# EAGLE library part ELCO-6222-8 (library kyocera-elco)
Kyocera Elco 6222 8-pos
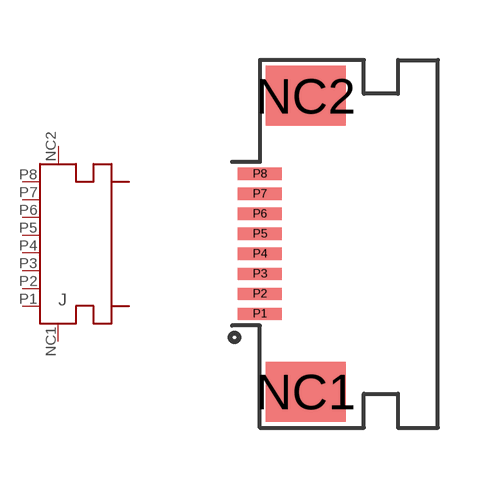
[diagram p0: symbol with the pads of ELCO-6222-8; footprint ELCO-6222-8]

Designator prefix J

## ELCO-6222-8  [ELCO-6222-8]
NC1  NC1  nc
NC2  NC2  nc
P1  P1  pas
P2  P2  pas
P3  P3  pas
P4  P4  pas
P5  P5  pas
P6  P6  pas
P7  P7  pas
P8  P8  pas

## Footprint ELCO-6222-8 (pad centres in mm)
smd 2 x 1.5: NC1 0.85,-3.7; NC2 0.85,3.7
smd 1.1 x 0.3: P1 -0.3,-1.75; P2 -0.3,-1.25; P3 -0.3,-0.75; P4 -0.3,-0.25; P5 -0.3,0.25; P6 -0.3,0.75; P7 -0.3,1.25; P8 -0.3,1.75